# EAGLE library part HMC8410LP2FETR (library My_Library_2)
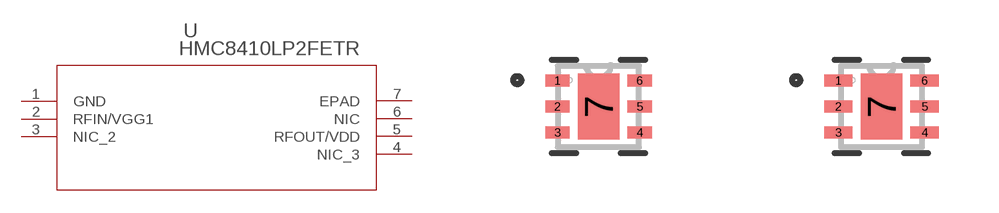
[diagram p3: symbol with the pads of CP-6-9_ADI; footprints CP-6-9_ADI, CP-6-9_ADI-M]

Designator prefix U

## HMC8410LP2FETR (COPYRIGHT: Copyright (C) 2024 Ultra Librarian. All rights reserved.; MANUFACTURER_PART_NUMBER: HMC8410LP2FETR; MFR_NAME: Analog Devices Inc)  [CP-6-9_ADI]
1  GND  pas
2  RFIN/VGG1  pwr
3  NIC_2  nc
4  NIC_3  nc
5  RFOUT/VDD  pwr
6  NIC  nc
7  EPAD  pas

## HMC8410LP2FETRCP-6-9_ADI-M (COPYRIGHT: Copyright (C) 2024 Ultra Librarian. All rights reserved.; MANUFACTURER_PART_NUMBER: HMC8410LP2FETR; MFR_NAME: Analog Devices Inc)  [CP-6-9_ADI-M]
Pads as for CP-6-9_ADI

## HMC8410LP2FETRCP-6-9_ADI-L (COPYRIGHT: Copyright (C) 2024 Ultra Librarian. All rights reserved.; MANUFACTURER_PART_NUMBER: HMC8410LP2FETR; MFR_NAME: Analog Devices Inc)  [CP-6-9_ADI-L]
Pads as for CP-6-9_ADI

## Footprint CP-6-9_ADI (pad centres in mm)
smd 0.61 x 0.305: 1 -1.029,0.65; 2 -1.029,0; 3 -1.029,-0.65; 4 1.029,-0.65; 5 1.029,0; 6 1.029,0.65
smd 1.041 x 1.651: 7 0,0

## Footprint CP-6-9_ADI-M (pad centres in mm)
smd 0.711 x 0.305: 1 -1.079,0.65; 2 -1.079,0; 3 -1.079,-0.65; 4 1.079,-0.65; 5 1.079,0; 6 1.079,0.65
smd 1.041 x 1.651: 7 0,0

## Footprint CP-6-9_ADI-L (pad centres in mm)
smd 0.508 x 0.305: 1 -0.978,0.65; 2 -0.978,0; 3 -0.978,-0.65; 4 0.978,-0.65; 5 0.978,0; 6 0.978,0.65
smd 1.041 x 1.651: 7 0,0